# Altium schematic symbol library PCA9540BDP.SchLib: 1 symbol
Pins are listed as number, name and electrical type; pins without a type are passive.

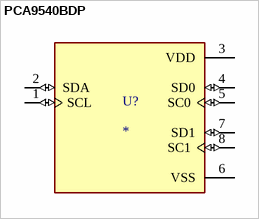
[diagram p0: symbol PCA9540BDP]

## PCA9540BDP
designator U?
2-Channel IﾂｲC Multiplexer Interface 8-TSSOP; MP: PCA9540BDP; MF: {'manufacturer': u'NXP USA'}; Price: None; Value: *; Package: None; Availability: Unavailable
footprint SOP65P490X110-8N
pins: 1 SCL (io), 2 SDA (io), 3 VDD (power), 4 SD0 (io), 5 SC0 (io), 6 VSS (power), 7 SD1 (io), 8 SC1 (io)